# Altium footprint library PcbLib1.PcbLib: 2 footprints
Each footprint in its own frame and in the unit in brackets; x right, y up, seen from the top. Pads: shape width x height; smd on the part's side, far side on the other; paste and mask are expansions set on the pad; w line width, h text height; cw(c..) or ccw(c..) is an arc to the next point about the centre after c.
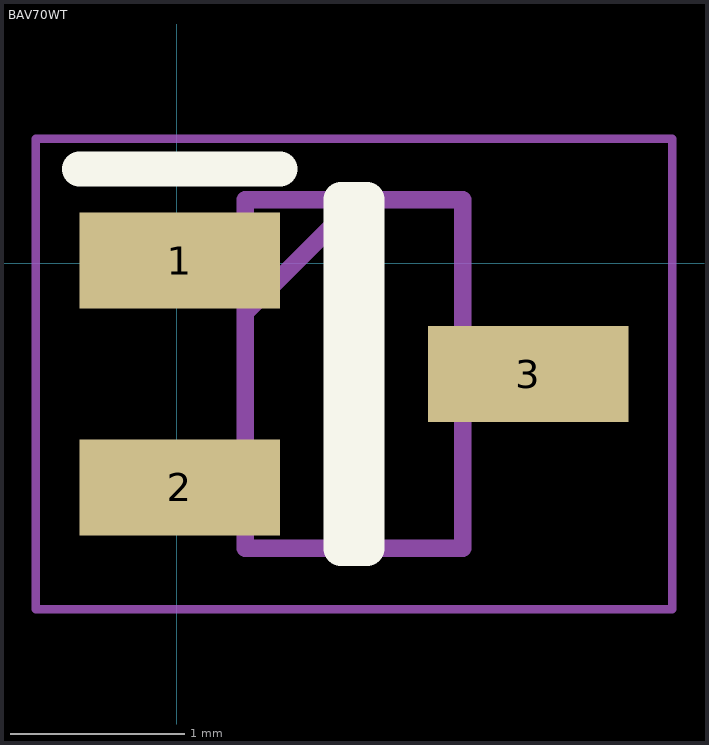
[diagram p0: the footprints below, top view; thin cyan lines are the x and y axes]

## BAV70WT [mm] "Diode"
pads (3):
  rect 1.15x0.55 smd: 1(0.016,0.015) 2(0.016,-1.285) 3(2.016,-0.635)
Top Overlay:
  lines w0.2: -0.559,0.54 0.591,0.54 ; 0.941,-1.635 1.091,-1.635 1.091,0.365 0.941,0.365 0.941,-1.635
Mechanical 13:
  lines w0.1: 0.391,-0.285 1.041,0.365 ; 0.391,-1.635 1.641,-1.635 1.641,0.365 0.391,0.365 0.391,-1.635
Mechanical 15:
  lines w0.05: -0.809,-1.985 2.841,-1.985 2.841,0.715 -0.809,0.715 -0.809,-1.985
3D body "BAV70WT1G.stp": height 1, standoff 0, extent -0.084,-1.635 2.116,0.365

## PCBComponent_1 [mm]